# EAGLE library part LM741 (library GTOR)
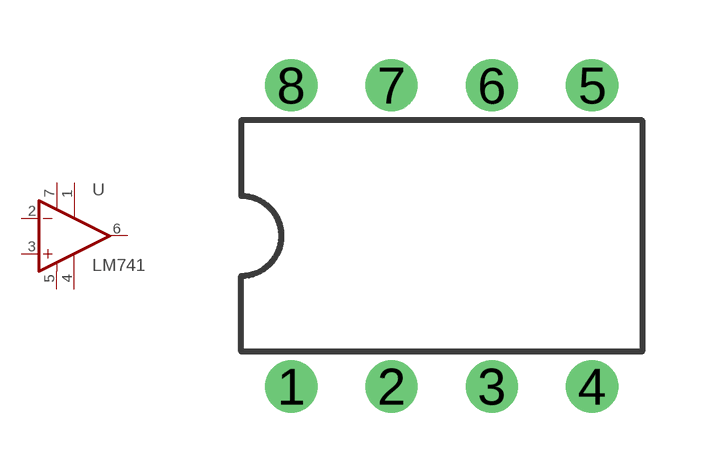
[diagram p1: symbol with the pads of DIL08; footprint DIL08]

Designator prefix -

## LM741  [DIL08]
1  OFFSETNULL
2  INV_INPUT  in
3  NONINV_INPUT  in
4  V-  pas
5  OFFSETNULL2
6  OUT  out
7  V+  pwr

## Footprint DIL08 (pad centres in mm)
Dual In Line Package
drill 0.813 pad 1.27: 1 -3.81,-3.81; 2 -1.27,-3.81; 3 1.27,-3.81; 4 3.81,-3.81; 5 3.81,3.81; 6 1.27,3.81; 7 -1.27,3.81; 8 -3.81,3.81